# Altium footprint library libreriaPcb.PcbLib: 683 footprints (part 26 of 44)
Each footprint in its own frame and in the unit in brackets; x right, y up, seen from the top. Pads: shape width x height; smd on the part's side, far side on the other; paste and mask are expansions set on the pad; w line width, h text height; cw(c..) or ccw(c..) is an arc to the next point about the centre after c.
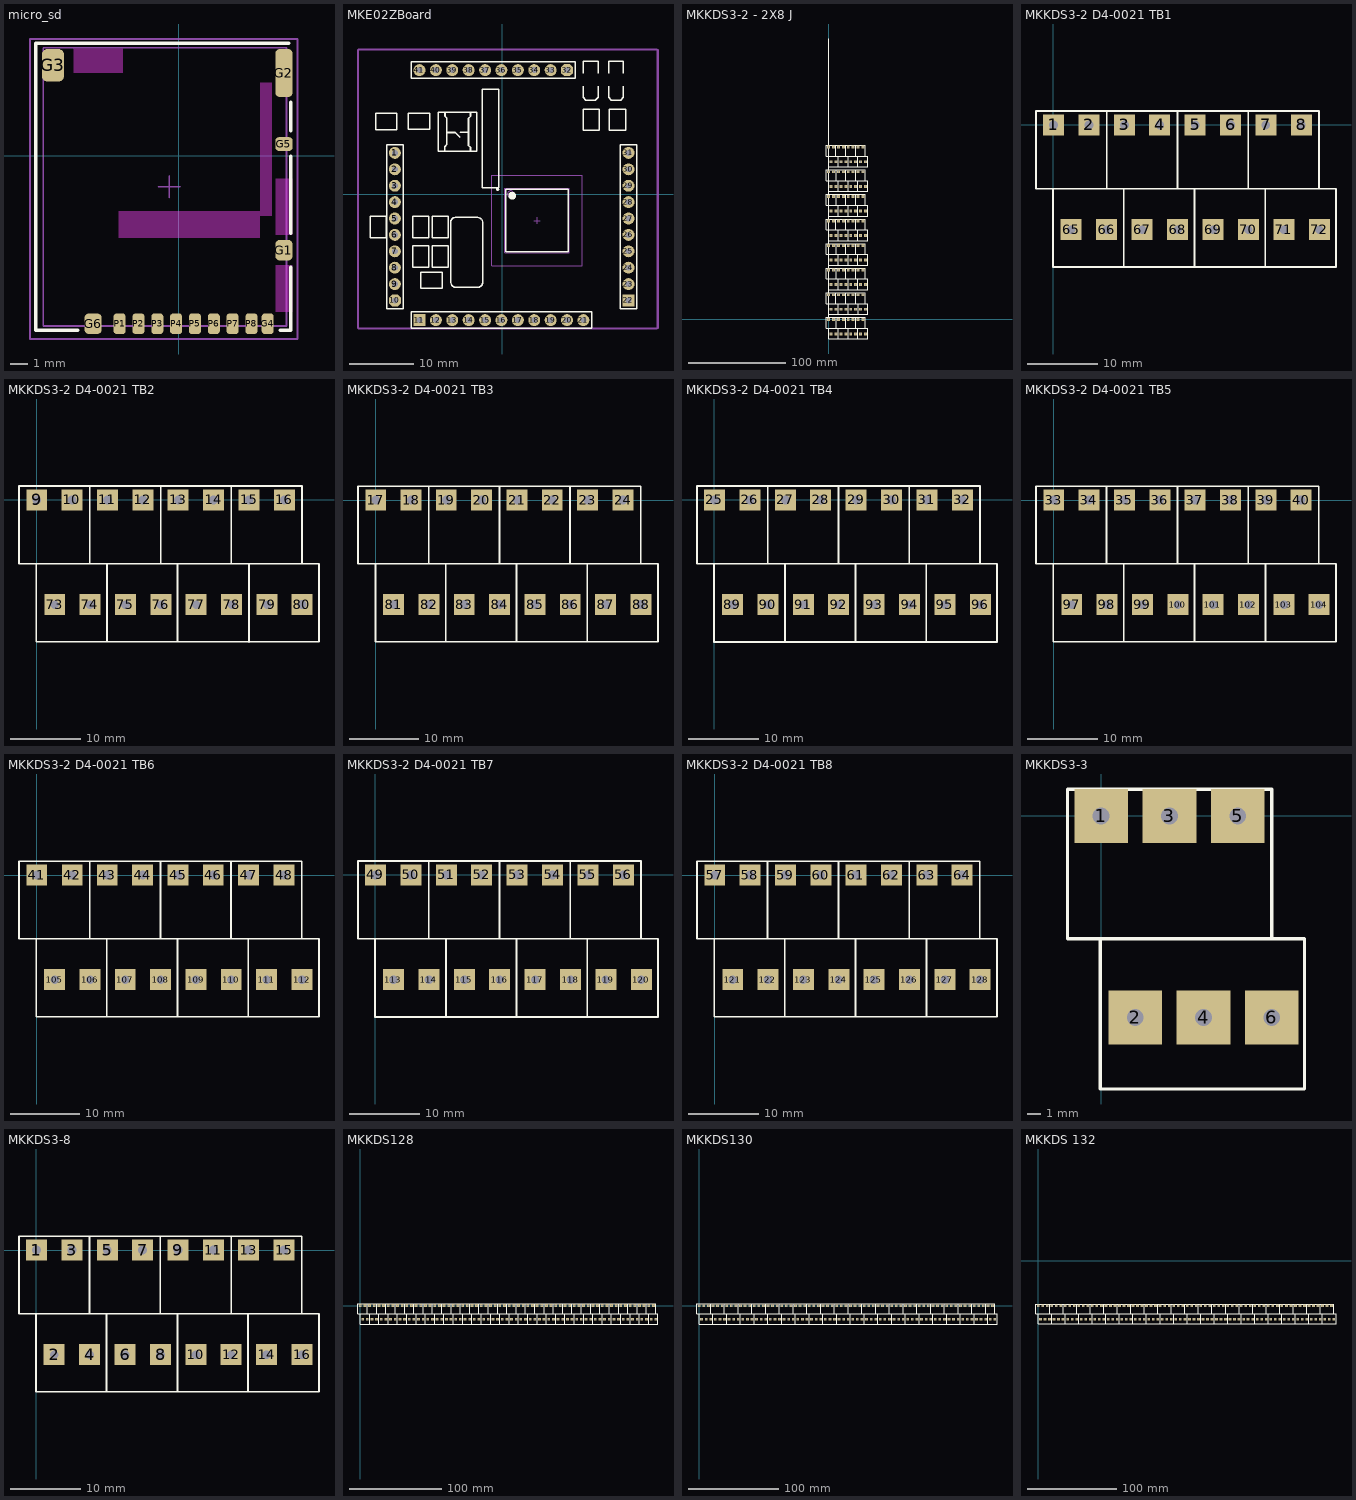
[diagram p25: the footprints below, top view; thin cyan lines are the x and y axes]

## micro_sd [mm]
pads (14):
  rrect50% 1x1.2 smd: G1(6.145,-5.518) G6(-5.005,-9.818)
  rrect50% 1x2.8 smd: G2(6.145,4.832)
  rrect50% 1.3x1.9 smd: G3(-7.355,5.282)
  rrect50% 0.7x1.2 smd: G4(5.195,-9.818) P1(-3.455,-9.818) P2(-2.355,-9.818) P3(-1.255,-9.818) P4(-0.155,-9.818) P5(0.945,-9.818) P6(2.045,-9.818) P7(3.145,-9.818) P8(4.245,-9.818)
  rrect50% 1x0.8 smd: G5(6.145,0.682)
Top Layer keep-out:
  region: -3.26,6.258 -6.16,6.258 -6.16,4.833 -3.26,4.833
  region: 5.44,4.283 4.74,4.283 4.74,-3.517 5.44,-3.517
  region: 6.64,-1.317 5.64,-1.317 5.64,-4.637 6.64,-4.637
  region: 6.64,-6.387 5.64,-6.387 5.64,-9.137 6.64,-9.137
  region: 4.74,-3.217 -3.51,-3.217 -3.51,-4.817 4.74,-4.817
Top Overlay:
  lines w0.2: -8.36,-10.199 -8.36,6.565 ; -8.307,-10.199 -5.894,-10.199 ; -8.307,6.565 -8.18,6.565 6.425,6.565 ; 5.917,-10.199 6.552,-10.199 6.552,-6.516 ; 6.552,-4.517 6.552,-0.039 ; 6.552,1.458 6.552,3.136
Mechanical 11:
  lines w0.1: -7.926,-9.945 -7.926,6.311 -7.799,6.311 6.298,6.311 6.298,-9.945 -7.926,-9.945
  text "1" at -3.354,-9.31 h1
Mechanical 15:
  lines w0.1: -1.195,-1.817 0.075,-1.817 ; -0.56,-2.452 -0.56,-1.182 ; -8.688,-10.707 6.933,-10.707 6.933,6.819 -8.688,6.819 -8.688,-10.707
3D body "User Library-Micro_SD.step": height 1.6, standoff 0.63, extent -5.66,-7.317 5.34,7.683
3D body "DM3AT-SF-PEJM5.stp": height 1.68, standoff 0, extent -7.612,-10.072 6.238,6.078

## MKE02ZBoard [mm]
pads (41):
  round 1.85 hole 0.9 paste+0: 1(-16.601,6.409) 2(-16.601,3.869) 3(-16.601,1.329) 4(-16.601,-1.211) 5(-16.601,-3.751) 6(-16.601,-6.291) 7(-16.601,-8.831) 8(-16.601,-11.371) 9(-16.601,-13.911) 33(7.529,19.236) 34(4.989,19.236) 35(2.449,19.236) 36(-0.091,19.236) 37(-2.631,19.236) 38(-5.171,19.236) 39(-7.711,19.236) 40(-10.251,19.236) 41(-12.791,19.236)
  oct 1.85x1.85 hole 0.9: 10(-16.601,-16.451)
  rect 1.85x1.85 hole 0.9: 11(-12.791,-19.499) 22(19.594,-16.451)
  round 1.85 hole 0.9: 12(-10.251,-19.499) 13(-7.711,-19.499) 14(-5.171,-19.499) 15(-2.631,-19.499) 16(-0.091,-19.499) 17(2.449,-19.499) 18(4.989,-19.499) 19(7.529,-19.499) 20(10.069,-19.499) 21(12.609,-19.499) 23(19.594,-13.911) 24(19.594,-11.371) 25(19.594,-8.831) 26(19.594,-6.291) 27(19.594,-3.751) 28(19.594,-1.211) 29(19.594,1.329) 30(19.594,3.869) 31(19.594,6.409)
  oct 1.85x1.85 hole 0.9 paste+0: 32(10.069,19.236)
Top Layer:
  lines w0.35: -17.044,-6.735 -16.601,-6.291 -15.839,-6.291 ; -16.601,-1.211 -16.537,-1.275 ; -5.171,-19.499 -5.171,-19.245 ; 2.449,-19.499 2.449,-18.864 ; 4.989,-19.499 4.989,-18.991 ; 18.959,-16.451 19.594,-16.451 ; 18.959,-8.831 19.594,-8.831 ; 19.34,1.329 19.594,1.329
  lines w0.5: -16.855,-11.371 cw(c-16.728,-11.371) -16.728,-11.244 ; -16.855,-8.831 cw(c-16.728,-8.831) -16.728,-8.704
  lines w1: 19.531,6.345 19.594,6.409
Top Overlay:
  circle w0.25: c-0.666,0.756 r0.125
  circle w0.6: c1.584,-0.219 r0.3
  lines w0.2: -7.94,-4.37 cw(c-7.158,-4.338) -7.158,-3.555 -3.788,-3.555 -3.756,-3.587 cw(c-3.773,-4.37) -2.99,-4.37 -2.99,-13.62 cw(c-3.773,-13.62) -3.805,-14.402 ; -7.94,-4.07 -7.94,-13.62 ccw(c-7.158,-13.62) -7.158,-14.402 -3.84,-14.402 ; -3.918,6.666 -9.893,6.666 -9.893,12.716 -3.893,12.716 -3.893,6.691 ; 12.575,16.749 12.575,15.049 12.975,14.549 14.475,14.549 14.875,15.049 14.875,16.749 ; 12.575,18.749 12.575,20.649 14.875,20.649 14.875,18.749 ; 16.512,16.749 16.512,15.049 16.912,14.549 18.412,14.549 18.812,15.049 18.812,16.749 ; 16.512,18.749 16.512,20.649 18.812,20.649 18.812,18.749 ; -20.454,-6.735 -20.454,-3.435 -19.204,-3.435 -17.954,-3.435 -17.954,-6.735 -20.454,-6.735 ; -19.594,10.038 -19.594,11.288 -19.594,12.538 -16.294,12.538 -16.294,10.038 -19.594,10.038 ; -17.871,-17.721 -17.871,7.679 -15.331,7.679 -15.331,-15.816 -15.331,-17.721 -17.871,-17.721 ; -14.504,10.048 -14.504,12.548 -11.204,12.548 -11.204,11.298 -11.204,10.048 -14.504,10.048 ; -14.061,-20.769 13.879,-20.769 13.879,-18.229 -12.156,-18.229 -14.061,-18.229 -14.061,-20.769 ; -14.061,17.966 9.434,17.966 11.339,17.966 11.339,20.506 -14.061,20.506 -14.061,17.966 ; -13.85,-11.307 -13.85,-8.007 -12.6,-8.007 -11.35,-8.007 -11.35,-11.307 -13.85,-11.307 ; -13.85,-6.735 -13.85,-3.435 -11.35,-3.435 -11.35,-6.735 -12.6,-6.735 -13.85,-6.735 ; -12.589,-14.58 -12.589,-12.08 -9.289,-12.08 -9.289,-13.33 -9.289,-14.58 -12.589,-14.58 ; -10.802,-11.307 -10.802,-8.007 -9.552,-8.007 -8.302,-8.007 -8.302,-11.307 -10.802,-11.307 ; -10.802,-6.735 -10.802,-3.435 -8.302,-3.435 -8.302,-6.735 -9.552,-6.735 -10.802,-6.735 ; -3.075,1.011 -0.535,1.011 -0.535,16.251 -3.075,16.251 -3.075,1.011 ; 0.584,-8.919 0.584,0.781 10.284,0.781 10.284,-8.919 0.584,-8.919 ; 12.576,9.892 12.576,13.192 15.076,13.192 15.076,9.892 13.826,9.892 12.576,9.892 ; 16.64,9.892 16.64,13.192 19.14,13.192 19.14,9.892 17.89,9.892 16.64,9.892 ; 18.324,-17.721 20.864,-17.721 20.864,7.679 18.324,7.679 18.324,-15.816 18.324,-17.721
  lines w0.254: -8.893,6.666 -8.893,7.366 -8.543,7.716 -8.543,11.816 -8.843,12.116 -8.843,12.716 ; -8.543,9.566 -7.243,9.566 -6.543,8.866 ; -6.443,9.616 -5.193,9.616 ; -4.893,6.666 -4.893,7.266 -5.193,7.566 -5.193,11.766 -4.893,12.066 -4.893,12.716
Mechanical 1:
  circle w0.1: c1.334,0.031 r0.5
  lines w0.1: 0.434,-9.069 0.434,0.931 10.434,0.931 10.434,-9.069 0.434,-9.069
  lines w0.254: -16.601,-20.769 20.864,-20.769 ; -12.791,19.236 -12.537,19.236 -12.283,19.49 ; -22.316,-20.769 -22.316,22.411 24.166,22.411 24.166,-20.769 -22.316,-20.769 ; -22.252,-20.833 24.039,-20.833 24.039,22.474 -22.189,22.474 -22.252,22.411 -22.252,-20.833
Mechanical 15:
  lines w0.1: 4.934,-4.069 5.934,-4.069 ; 5.434,-4.569 5.434,-3.569 ; -1.566,-11.069 -1.566,2.931 12.434,2.931 12.434,-11.069 -1.566,-11.069
3D body: height 7.35, standoff 7.25, extent 1.284,-1.868 1.684,-1.468
3D body: height 7, standoff 6, extent 6.696,-9.466 6.996,-7.714
3D body: height 7, standoff 6, extent 6.211,-9.453 6.511,-7.701
3D body: height 7, standoff 6, extent 5.703,-9.466 6.003,-7.714
3D body: height 7, standoff 6, extent 5.195,-9.466 5.495,-7.714
3D body: height 7, standoff 6, extent 4.687,-9.466 4.987,-7.714
3D body: height 7, standoff 6, extent 4.207,-9.466 4.507,-7.714
3D body: height 7, standoff 6, extent 3.696,-9.466 3.996,-7.714
3D body: height 7, standoff 6, extent 3.188,-9.466 3.488,-7.714
3D body: height 7, standoff 6, extent 2.706,-9.466 3.006,-7.714
3D body: height 7, standoff 6, extent 2.198,-9.466 2.498,-7.714
3D body: height 7, standoff 6, extent 1.687,-9.466 1.987,-7.714
3D body: height 7, standoff 6, extent 1.205,-9.466 1.505,-7.714
3D body: height 6.25, standoff 6, extent 6.693,-0.576 6.993,1.176
3D body: height 6.25, standoff 6, extent 6.185,-0.576 6.485,1.176
3D body: height 6.25, standoff 6, extent 5.703,-0.576 6.003,1.176
3D body: height 6.25, standoff 6, extent 5.195,-0.576 5.495,1.176
3D body: height 6.25, standoff 6, extent 4.712,-0.576 5.012,1.176
3D body: height 6.25, standoff 6, extent 4.204,-0.576 4.504,1.176
3D body: height 6.25, standoff 6, extent 3.694,-0.576 3.994,1.176
3D body: height 6.25, standoff 6, extent 3.214,-0.576 3.514,1.176
3D body: height 6.25, standoff 6, extent 2.706,-0.576 3.006,1.176
3D body: height 6.25, standoff 6, extent 2.198,-0.576 2.498,1.176
3D body: height 6.25, standoff 6, extent 1.715,-0.576 2.015,1.176
3D body: height 6.25, standoff 6, extent 1.184,-0.576 1.484,1.176
3D body: height 7, standoff 6, extent 7.631,-7.025 9.383,-6.725
3D body: height 7, standoff 6, extent 7.631,-6.545 9.383,-6.245
3D body: height 7, standoff 6, extent 7.631,-6.035 9.383,-5.735
3D body: height 7, standoff 6, extent 7.644,-5.527 9.396,-5.227
3D body: height 7, standoff 6, extent 7.644,-5.044 9.396,-4.744
3D body: height 7, standoff 6, extent 7.644,-4.539 9.396,-4.239
3D body: height 7, standoff 6, extent 7.644,-4.031 9.396,-3.731
3D body: height 7, standoff 6, extent 7.644,-3.52 9.396,-3.22
3D body: height 7, standoff 6, extent 7.644,-3.038 9.396,-2.738
3D body: height 7, standoff 6, extent 7.644,-2.53 9.396,-2.23
3D body: height 7, standoff 6, extent 7.631,-2.024 9.383,-1.724
3D body: height 6.25, standoff 6, extent 7.644,-1.541 9.396,-1.241
3D body: height 7, standoff 6, extent -1.183,-1.541 0.57,-1.241
3D body: height 7, standoff 6, extent -1.183,-2.024 0.57,-1.724
3D body: height 7, standoff 6, extent -1.183,-2.532 0.57,-2.232
3D body: height 7, standoff 6, extent -1.183,-3.038 0.57,-2.738
3D body: height 7, standoff 6, extent -1.183,-3.523 0.57,-3.223
3D body: height 7, standoff 6, extent -1.183,-4.028 0.57,-3.728
3D body: height 7, standoff 6, extent -1.183,-4.536 0.57,-4.236
3D body: height 7, standoff 6, extent -1.183,-5.044 0.57,-4.744
3D body: height 7, standoff 6, extent -1.183,-5.527 0.57,-5.227
3D body: height 7, standoff 6, extent -1.183,-6.035 0.57,-5.735
3D body: height 7, standoff 6, extent -1.183,-6.52 0.57,-6.22
3D body: height 7, standoff 6, extent -1.183,-7.023 0.57,-6.723
3D body: height 7, standoff 6, extent -16.123,9.112 -10.113,15.122
3D body: height 8.9, standoff 8.1, extent -14.723,10.632 -11.723,13.632
3D body: height 8.1, standoff 7, extent -16.126,9.101 -10.116,15.111
3D body: height 8.2, standoff 8.1, extent -15.903,13.932 -14.903,14.932
3D body: height 8.2, standoff 8.1, extent -11.353,13.902 -10.353,14.902
3D body: height 8.2, standoff 8.1, extent -11.303,9.372 -10.303,10.372
3D body: height 8.2, standoff 8.1, extent -15.853,9.402 -14.853,10.402
3D body: height 7, standoff 6, extent -2.67,10.558 -0.07,12.158
3D body: height 7, standoff 6, extent -0.07,10.558 0.23,12.158
3D body: height 7, standoff 6, extent -2.97,10.558 -2.67,12.158
3D body: height -2, standoff -6, extent -9.801,-11.264 -4.65,-0.217
3D body: height 7, standoff 6, extent -16.385,18.317 -14.785,20.917
3D body: height 7, standoff 6, extent -16.385,20.917 -14.785,21.217
3D body: height 7, standoff 6, extent -16.385,18.017 -14.785,18.317
3D body: height 7, standoff 6, extent -2.67,13.098 -0.07,14.698
3D body: height 7, standoff 6, extent -0.07,13.098 0.23,14.698
3D body: height 7, standoff 6, extent -2.97,13.098 -2.67,14.698
3D body: height 7, standoff 6, extent -14.857,-6.33 -13.257,-3.73
3D body: height 7, standoff 6, extent -14.857,-3.73 -13.257,-3.43
3D body: height 7, standoff 6, extent -14.857,-6.63 -13.257,-6.33
3D body: height 7, standoff 6, extent -19.683,-6.33 -18.083,-3.73
3D body: height 7, standoff 6, extent -19.683,-3.73 -18.083,-3.43
3D body: height 7, standoff 6, extent -19.683,-6.63 -18.083,-6.33
3D body: height 7, standoff 6, extent -11.687,-5.063 -9.087,-3.463
3D body: height 7, standoff 6, extent -9.087,-5.063 -8.787,-3.463
3D body: height 7, standoff 6, extent -11.987,-5.063 -11.687,-3.463
3D body: height 7, standoff 6, extent -11.669,-7.849 -9.069,-6.249
3D body: height 7, standoff 6, extent -11.969,-7.849 -11.669,-6.249
3D body: height 7, standoff 6, extent -9.069,-7.849 -8.769,-6.249
3D body: height 6, standoff 5, extent -22.163,-20.718 23.912,22.309
3D body: height -0.2, standoff -6, extent 18.215,-17.827 20.864,7.679
3D body: height -0.2, standoff -6, extent -17.849,-17.801 -15.2,7.704
3D body: height -0.2, standoff -6, extent -13.961,18.038 11.544,20.687
3D body: height -0.2, standoff -6, extent -14.224,-20.951 13.93,-18.302
3D body: height 1, standoff 0, extent -13.42,-11.237 -11.82,-10.937
3D body: height 1, standoff 0, extent -13.42,-8.337 -11.82,-8.037
3D body: height 1, standoff 0, extent -13.42,-10.937 -11.82,-8.337
3D body: height 1, standoff 0, extent -10.372,-11.237 -8.772,-10.937
3D body: height 1, standoff 0, extent -10.372,-8.337 -8.772,-8.037
3D body: height 1, standoff 0, extent -10.372,-10.937 -8.772,-8.337
3D body: height 1, standoff 0, extent -13.38,-3.805 -11.78,-3.505
3D body: height 1, standoff 0, extent -13.38,-6.705 -11.78,-6.405
3D body: height 1, standoff 0, extent -13.38,-6.405 -11.78,-3.805
3D body: height 1, standoff 0, extent -20.024,-6.665 -18.424,-6.365
3D body: height 1, standoff 0, extent -20.024,-3.765 -18.424,-3.465
3D body: height 1, standoff 0, extent -20.024,-6.365 -18.424,-3.765
3D body: height 1, standoff 0, extent -10.332,-3.805 -8.732,-3.505
3D body: height 1, standoff 0, extent -10.332,-6.705 -8.732,-6.405
3D body: height 1, standoff 0, extent -10.332,-6.405 -8.732,-3.805
3D body: height 1, standoff 0, extent -14.434,10.518 -14.134,12.118
3D body: height 1, standoff 0, extent -11.534,10.518 -11.234,12.118
3D body: height 1, standoff 0, extent -14.134,10.518 -11.534,12.118
3D body: height 6, standoff 5, extent 12.901,16.124 14.527,19.426
3D body: height 6, standoff 5, extent 16.838,16.124 18.464,19.426
3D body: height 1, standoff 0, extent -12.249,-14.14 -9.649,-12.54
3D body: height 1, standoff 0, extent -9.649,-14.14 -9.349,-12.54
3D body: height 1, standoff 0, extent -12.549,-14.14 -12.249,-12.54
3D body: height 1, standoff 0, extent -19.234,10.498 -16.634,12.098
3D body: height 1, standoff 0, extent -19.534,10.498 -19.234,12.098
3D body: height 1, standoff 0, extent -16.634,10.498 -16.334,12.098
3D body: height 6, standoff 5, extent 13.016,10.252 14.616,12.852
3D body: height 6, standoff 5, extent 13.016,9.952 14.616,10.252
3D body: height 6, standoff 5, extent 13.016,12.852 14.616,13.152
3D body: height 6, standoff 5, extent 17.08,10.252 18.68,12.852
3D body: height 6, standoff 5, extent 17.08,9.952 18.68,10.252
3D body: height 6, standoff 5, extent 17.08,12.852 18.68,13.152
3D body: height 2.2, standoff 2.1, extent -5.162,6.97 -4.164,7.966
3D body: height 2.2, standoff 2.1, extent -5.132,11.52 -4.134,12.516
3D body: height 2.2, standoff 2.1, extent -9.662,11.47 -8.664,12.466
3D body: height 2.2, standoff 2.1, extent -9.692,6.92 -8.694,7.916
3D body: height 2.1, standoff 2, extent -9.883,6.696 -3.873,12.706
3D body: height 2.35, standoff 2.1, extent -8.39,8.108 -5.396,11.096
3D body: height 2, standoff 0, extent -9.883,6.696 -3.873,12.706
3D body: height 10, standoff 0, extent -8.041,-14.502 -2.89,-3.455
3D body: height 7.25, standoff 6, extent 0.6,-7.632 7.6,-0.632
3D body: height 2.45, standoff 0, extent 0.434,-9.069 10.434,0.931

## MKKDS3-2 - 2X8 J [mm]
pads (128):
  rect 3x3 hole 1.25: 1(0,0) 2(5.08,0) 3(10.16,0) 4(15.2,0) 5(20.28,0) 6(25.36,0) 7(30.4,0) 8(35.48,0) 9(0,25.4) 10(5.04,25.4) 11(10.12,25.4) 12(15.2,25.4) 13(20.24,25.4) 14(25.32,25.4) 15(30.4,25.4) 16(35.44,25.4) 17(0,50.8) 18(5.08,50.8) 19(10.12,50.8) 20(15.2,50.8) 21(20.28,50.8) 22(25.32,50.8) 23(30.4,50.8) 24(35.48,50.8) 25(0,76.2) 26(5.08,76.2) 27(10.16,76.2) 28(15.2,76.2) 29(20.28,76.2) 30(25.36,76.2) 31(30.4,76.2) 32(35.48,76.2) 33(0,101.6) 34(5.04,101.6) 35(10.12,101.6) 36(15.2,101.6) 37(20.24,101.6) 38(25.32,101.6) 39(30.4,101.6) 40(35.44,101.6) 41(0,127) 42(5.092,127) 43(10.12,127) 44(15.2,127) 45(20.28,127) 46(25.32,127) 47(30.4,127) 48(35.48,127) 49(0,152.4) 50(5.08,152.4) 51(10.16,152.4) 52(15.2,152.4) 53(20.28,152.4) 54(25.36,152.4) 55(30.4,152.4) 56(35.48,152.4) 57(0,177.8) 58(5.04,177.8) 59(10.12,177.8) 60(15.2,177.8) 61(20.24,177.8) 62(25.32,177.8) 63(30.4,177.8) 64(35.44,177.8) 65(2.54,-15) 66(7.62,-15) 67(12.7,-15) 68(17.78,-15) 69(22.86,-15) 70(27.9,-15) 71(32.98,-15) 72(38.06,-15) 73(2.58,10.4) 74(7.62,10.4) 75(12.7,10.4) 76(17.78,10.4) 77(22.82,10.4) 78(27.9,10.4) 79(32.98,10.4) 80(37.966,10.414) 81(2.58,35.8) 82(7.66,35.8) 83(12.7,35.8) 84(17.78,35.8) 85(22.86,35.8) 86(27.9,35.8) 87(32.98,35.8) 88(38.06,35.8) 89(2.58,61.2) 90(7.66,61.2) 91(12.74,61.2) 92(17.78,61.2) 93(22.86,61.2) 94(27.94,61.2) 95(32.98,61.2) 96(38.06,61.2) 97(2.58,86.6) 98(7.62,86.6) 99(12.7,86.6) 100(17.78,86.6) 101(22.82,86.6) 102(27.9,86.6) 103(32.98,86.6) 104(38.02,86.6) 105(2.58,112) 106(7.66,112) 107(12.7,112) 108(17.78,112) 109(22.86,112) 110(27.9,112) 111(32.98,112) 112(38.06,112) 113(2.58,137.4) 114(7.66,137.4) 115(12.74,137.4) 116(17.78,137.4) 117(22.86,137.4) 118(27.94,137.4) 119(32.98,137.4) 120(38.06,137.4) 121(2.58,162.8) 122(7.62,162.8) 123(12.7,162.8) 124(17.78,162.8) 125(22.82,162.8) 126(27.9,162.8) 127(32.98,162.8) 128(38.02,162.8)
Top Overlay:
  drawing of 163 lines, arcs and shapes, not listed

## MKKDS3-2 D4-0021 TB1 [mm]
pads (16):
  rect 3x3 hole 1.25: 1(0,0) 2(5.08,0) 3(10.16,0) 4(15.2,0) 5(20.28,0) 6(25.36,0) 7(30.4,0) 8(35.48,0) 65(2.54,-15) 66(7.62,-15) 67(12.7,-15) 68(17.78,-15) 69(22.86,-15) 70(27.9,-15) 71(32.98,-15) 72(38.06,-15)
Top Overlay:
  lines w0.254: -0.073,-9.144 -0.073,-20.32 15.127,-20.32 30.327,-20.32 ; 7.62,-9.144 7.62,1.98 ; 10.047,-20.32 10.047,-9.144 ; 12.7,-9.144 30.327,-9.144 30.327,-20.32 ; 15.127,-9.144 -2.5,-9.144 -2.5,1.98 12.7,1.98 27.9,1.98 ; 17.74,-9.144 17.74,1.98 ; 20.207,-20.32 20.207,-9.144 ; 38.02,-9.144 38.02,1.98 27.9,1.98 ; 27.9,1.98 27.9,-9.144 40.447,-9.144 40.447,-20.32 30.327,-20.32

## MKKDS3-2 D4-0021 TB2 [mm]
pads (16):
  rect 3x3 hole 1.25: 9(0,0) 10(5.04,0) 11(10.12,0) 12(15.2,0) 13(20.24,0) 14(25.32,0) 15(30.4,0) 16(35.44,0) 73(2.58,-15) 74(7.62,-15) 75(12.7,-15) 76(17.78,-15) 77(22.82,-15) 78(27.9,-15) 79(32.98,-15) 80(37.966,-14.986)
Top Overlay:
  lines w0.254: -0.073,-9.144 -0.073,-20.32 20.167,-20.32 ; 7.58,-9.144 7.58,1.98 ; 10.047,-20.32 10.047,-9.144 ; 27.86,1.98 27.86,-9.144 40.407,-9.144 40.407,-20.32 35.367,-20.32 20.167,-20.32 ; 30.381,-20.334 30.381,-9.158 ; 32.94,-9.144 37.98,-9.144 37.98,1.98 32.94,1.98 17.74,1.98 ; 35.367,-9.144 17.74,-9.144 17.74,1.98 ; 17.74,1.98 -2.54,1.98 -2.54,-9.144 20.167,-9.144 20.167,-20.32

## MKKDS3-2 D4-0021 TB3 [mm]
pads (16):
  rect 3x3 hole 1.25: 17(0,0) 18(5.08,0) 19(10.12,0) 20(15.2,0) 21(20.28,0) 22(25.32,0) 23(30.4,0) 24(35.48,0) 81(2.58,-15) 82(7.66,-15) 83(12.7,-15) 84(17.78,-15) 85(22.86,-15) 86(27.9,-15) 87(32.98,-15) 88(38.06,-15)
Top Overlay:
  lines w0.254: -0.019,-9.158 -0.019,-20.334 10.047,-20.32 ; 10.047,-9.144 10.047,-20.32 ; 17.74,-9.144 17.74,1.98 -2.54,1.98 -2.54,-9.144 20.167,-9.144 ; 20.207,-20.32 20.207,-9.144 ; 22.82,-9.144 40.447,-9.144 ; 25.247,-9.144 7.62,-9.144 7.62,1.98 22.82,1.98 38.02,1.98 38.02,-9.144 ; 27.86,-9.144 27.86,1.98 ; 30.327,-20.32 30.327,-9.144 ; 40.447,-20.32 25.247,-20.32 10.047,-20.32 ; 40.487,-20.32 40.487,-9.144

## MKKDS3-2 D4-0021 TB4 [mm]
pads (16):
  rect 3x3 hole 1.25: 25(0,0) 26(5.08,0) 27(10.16,0) 28(15.2,0) 29(20.28,0) 30(25.36,0) 31(30.4,0) 32(35.48,0) 89(2.58,-15) 90(7.66,-15) 91(12.74,-15) 92(17.78,-15) 93(22.86,-15) 94(27.94,-15) 95(32.98,-15) 96(38.06,-15)
Top Overlay:
  lines w0.254: -0.073,-9.144 -0.073,-20.32 15.127,-20.32 30.327,-20.32 ; 7.62,-9.144 7.62,1.98 ; 10.087,-20.32 10.087,-9.144 ; 12.7,-9.144 30.327,-9.144 ; 15.127,-9.144 -2.5,-9.144 -2.5,1.98 12.7,1.98 27.9,1.98 ; 17.74,-9.144 17.74,1.98 ; 20.207,-20.32 20.207,-9.144 ; 38.02,-9.144 38.02,1.98 27.9,1.98 ; 27.9,-9.144 27.9,1.98 ; 27.9,-9.144 40.447,-9.144 40.447,-20.32 30.327,-20.32 ; 27.9,-9.144 27.9,1.98 ; 30.327,-20.32 30.327,-9.144 ; 30.327,-20.32 30.327,-9.144

## MKKDS3-2 D4-0021 TB5 [mm]
pads (16):
  rect 3x3 hole 1.25: 33(0,0) 34(5.04,0) 35(10.12,0) 36(15.2,0) 37(20.24,0) 38(25.32,0) 39(30.4,0) 40(35.44,0) 97(2.58,-15) 98(7.62,-15) 99(12.7,-15) 100(17.78,-15) 101(22.82,-15) 102(27.9,-15) 103(32.98,-15) 104(38.02,-15)
Top Overlay:
  lines w0.254: -0.073,-9.144 -0.073,-20.32 20.167,-20.32 ; 7.58,-9.144 7.58,1.98 ; 10.047,-20.32 10.047,-9.144 ; 27.86,-9.144 27.86,1.98 ; 30.327,-20.32 30.327,-9.144 ; 37.98,-9.144 37.98,1.98 17.74,1.98 ; 17.74,1.98 17.74,-9.144 40.447,-9.144 40.447,-20.32 20.167,-20.32 ; 17.74,1.98 -2.54,1.98 -2.54,-9.144 20.167,-9.144 20.167,-20.32

## MKKDS3-2 D4-0021 TB6 [mm]
pads (16):
  rect 3x3 hole 1.25: 41(0,0) 42(5.092,0) 43(10.12,0) 44(15.2,0) 45(20.28,0) 46(25.32,0) 47(30.4,0) 48(35.48,0) 105(2.58,-15) 106(7.66,-15) 107(12.7,-15) 108(17.78,-15) 109(22.86,-15) 110(27.9,-15) 111(32.98,-15) 112(38.06,-15)
Top Overlay:
  lines w0.254: -0.073,-9.144 -0.073,-20.32 20.167,-20.32 ; 17.74,-9.144 17.74,1.98 -2.54,1.98 -2.54,-9.144 20.167,-9.144 ; 20.207,-20.32 20.207,-9.144 ; 22.82,-9.144 40.447,-9.144 ; 25.247,-9.144 7.62,-9.144 ; 27.86,-9.144 27.86,1.98 ; 30.327,-20.32 30.327,-9.144 ; 38.02,-9.144 38.02,1.98 22.82,1.98 7.62,1.98 ; 40.447,-20.32 25.247,-20.32 10.047,-20.32 ; 40.487,-20.32 40.487,-9.144 ; 7.62,-9.144 7.62,1.98 ; 7.62,-9.144 7.62,1.98 ; 10.047,-20.32 10.047,-9.144 10.047,-20.32

## MKKDS3-2 D4-0021 TB7 [mm]
pads (16):
  rect 3x3 hole 1.25: 49(0,0) 50(5.08,0) 51(10.16,0) 52(15.2,0) 53(20.28,0) 54(25.36,0) 55(30.4,0) 56(35.48,0) 113(2.58,-15) 114(7.66,-15) 115(12.74,-15) 116(17.78,-15) 117(22.86,-15) 118(27.94,-15) 119(32.98,-15) 120(38.06,-15)
Top Overlay:
  lines w0.254: -0.073,-9.144 -0.073,-20.32 15.127,-20.32 30.327,-20.32 ; 7.62,-9.144 7.62,1.98 ; 10.087,-20.32 10.087,-9.144 ; 12.7,-9.144 30.327,-9.144 ; 15.127,-9.144 -2.5,-9.144 -2.5,1.98 27.9,1.98 ; 17.74,-9.144 17.74,1.98 ; 20.207,-20.32 20.207,-9.144 ; 38.02,-9.144 38.02,1.98 27.9,1.98 ; 27.9,-9.144 27.9,1.98 ; 27.9,-9.144 40.447,-9.144 40.447,-20.32 30.327,-20.32 ; 27.9,-9.144 27.9,1.98 ; 30.327,-20.32 30.327,-9.144 ; 30.327,-20.32 30.327,-9.144

## MKKDS3-2 D4-0021 TB8 [mm]
pads (16):
  rect 3x3 hole 1.25: 57(0,0) 58(5.04,0) 59(10.12,0) 60(15.2,0) 61(20.24,0) 62(25.32,0) 63(30.4,0) 64(35.44,0) 121(2.58,-15) 122(7.62,-15) 123(12.7,-15) 124(17.78,-15) 125(22.82,-15) 126(27.9,-15) 127(32.98,-15) 128(38.02,-15)
Top Overlay:
  lines w0.254: -0.073,-9.144 -0.073,-20.32 20.167,-20.32 ; 7.58,-9.144 7.58,1.98 ; 10.047,-20.32 10.047,-9.144 ; 27.86,-9.144 27.86,1.98 ; 30.327,-20.32 30.327,-9.144 ; 32.94,-9.144 40.447,-9.144 40.447,-20.32 20.167,-20.32 ; 35.367,-9.144 17.74,-9.144 17.74,1.98 ; 37.98,-9.144 37.98,1.98 32.94,1.98 17.74,1.98 ; 17.74,1.98 -2.54,1.98 -2.54,-9.144 20.167,-9.144 20.167,-20.32

## MKKDS3-3 [mm] "Bornera doble de 3x3"
pads (6):
  rect 4x4 hole 1.25: 1(0,0) 2(2.54,-15) 3(5.08,0) 4(7.62,-15) 5(10.16,0) 6(12.7,-15)
Top Overlay:
  lines w0.254: -0.073,-9.144 -0.073,-20.32 15.127,-20.32 15.127,-9.144 -2.5,-9.144 -2.5,1.98 12.7,1.98 12.7,-9.144

## MKKDS3-8 [mm]
pads (16):
  rect 3x3 hole 1.25: 1(0,0) 2(2.54,-15) 3(5.08,0) 4(7.62,-15) 5(10.16,0) 6(12.7,-15) 7(15.2,0) 8(17.78,-15) 9(20.28,0) 10(22.86,-15) 11(25.36,0) 12(27.9,-15) 13(30.4,0) 14(32.98,-15) 15(35.48,0) 16(38.06,-15)
Top Overlay:
  lines w0.254: -0.073,-9.144 -0.073,-20.32 15.127,-20.32 30.327,-20.32 ; 7.62,-9.144 7.62,1.98 ; 10.047,-20.32 10.047,-9.144 ; 12.7,-9.144 30.327,-9.144 30.327,-20.32 ; 15.127,-9.144 -2.5,-9.144 -2.5,1.98 12.7,1.98 27.9,1.98 ; 17.74,-9.144 17.74,1.98 ; 20.207,-20.32 20.207,-9.144 ; 38.02,-9.144 38.02,1.98 27.9,1.98 ; 27.9,1.98 27.9,-9.144 40.487,-9.144 40.487,-20.32 30.327,-20.32

## MKKDS128 [mm]
pads (128):
  rect 3x3 hole 1.25: 1(0,0) 2(5.08,0) 3(10.16,0) 4(15.2,0) 5(20.28,0) 6(25.36,0) 7(30.4,0) 8(35.48,0) 9(40.56,0) 10(45.6,0) 11(50.68,0) 12(55.76,0) 13(60.8,0) 14(65.88,0) 15(70.96,0) 16(76,0) 17(81.08,0) 18(86.16,0) 19(91.2,0) 20(96.28,0) 21(101.36,0) 22(106.4,0) 23(111.48,0) 24(116.56,0) 25(121.6,0) 26(126.68,0) 27(131.76,0) 28(136.8,0) 29(141.88,0) 30(146.96,0) 31(152,0) 32(157.08,0) 33(162.16,0) 34(167.2,0) 35(172.28,0) 36(177.36,0) 37(182.4,0) 38(187.48,0) 39(192.56,0) 40(197.6,0) 41(202.68,0) 42(207.772,0) 43(212.8,0) 44(217.88,0) 45(222.96,0) 46(228,0) 47(233.08,0) 48(238.16,0) 49(243.2,0) 50(248.28,0) 51(253.36,0) 52(258.4,0) 53(263.48,0) 54(268.56,0) 55(273.6,0) 56(278.68,0) 57(283.76,0) 58(288.8,0) 59(293.88,0) 60(298.96,0) 61(304,0) 62(309.08,0) 63(314.16,0) 64(319.2,0) 65(2.54,-15) 66(7.62,-15) 67(12.7,-15) 68(17.78,-15) 69(22.86,-15) 70(27.9,-15) 71(32.98,-15) 72(38.06,-15) 73(43.14,-15) 74(48.18,-15) 75(53.26,-15) 76(58.34,-15) 77(63.38,-15) 78(68.46,-15) 79(73.54,-15) 80(78.526,-14.986) 81(83.66,-15) 82(88.74,-15) 83(93.78,-15) 84(98.86,-15) 85(103.94,-15) 86(108.98,-15) 87(114.06,-15) 88(119.14,-15) 89(124.18,-15) 90(129.26,-15) 91(134.34,-15) 92(139.38,-15) 93(144.46,-15) 94(149.54,-15) 95(154.58,-15) 96(159.66,-15) 97(164.74,-15) 98(169.78,-15) 99(174.86,-15) 100(179.94,-15) 101(184.98,-15) 102(190.06,-15) 103(195.14,-15) 104(200.18,-15) 105(205.26,-15) 106(210.34,-15) 107(215.38,-15) 108(220.46,-15) 109(225.54,-15) 110(230.58,-15) 111(235.66,-15) 112(240.74,-15) 113(245.78,-15) 114(250.86,-15) 115(255.94,-15) 116(260.98,-15) 117(266.06,-15) 118(271.14,-15) 119(276.18,-15) 120(281.26,-15) 121(286.34,-15) 122(291.38,-15) 123(296.46,-15) 124(301.54,-15) 125(306.58,-15) 126(311.66,-15) 127(316.74,-15) 128(321.78,-15)
Top Overlay:
  lines w0.254: -0.073,-9.144 -0.073,-20.32 15.127,-20.32 30.327,-20.32 ; 7.62,-9.144 7.62,1.98 ; 10.047,-20.32 10.047,-9.144 ; 12.7,-9.144 30.327,-9.144 30.327,-20.32 ; 15.127,-9.144 -2.5,-9.144 -2.5,1.98 12.7,1.98 27.9,1.98 ; 17.74,-9.144 17.74,1.98 ; 20.207,-20.32 20.207,-9.144 ; 38.02,-9.144 38.02,1.98 ; 40.487,-20.32 40.487,-9.144 ; 43.1,-9.144 60.727,-9.144 60.727,-20.32 ; 45.527,-9.144 27.9,-9.144 27.9,1.98 ; 48.14,-9.144 48.14,1.98 ; 50.607,-20.32 50.607,-9.144 ; 68.42,-9.144 68.42,1.98 ; 70.941,-20.334 70.941,-9.158 ; 73.5,-9.144 91.127,-9.144 91.127,-20.32 ; 75.927,-9.144 58.3,-9.144 58.3,1.98 ; 78.54,-9.144 78.54,1.98 ; 81.061,-20.334 81.061,-9.158 ; 98.82,-9.144 98.82,1.98 ; 101.287,-20.32 101.287,-9.144 ; 103.9,-9.144 121.527,-9.144 121.527,-20.32 ; 106.327,-9.144 88.7,-9.144 88.7,1.98 ; 108.94,-9.144 108.94,1.98 ; 111.407,-20.32 111.407,-9.144 ; 129.22,-9.144 129.22,1.98 ; 131.687,-20.32 131.687,-9.144 ; 134.3,-9.144 151.927,-9.144 ; 136.727,-9.144 119.1,-9.144 119.1,1.98 ; 139.34,-9.144 139.34,1.98 ; 141.807,-20.32 141.807,-9.144 ; 159.62,-9.144 159.62,1.98 ; 162.087,-20.32 162.087,-9.144 ; 164.7,-9.144 182.327,-9.144 182.327,-20.32 ; 167.127,-9.144 149.5,-9.144 ; 169.74,-9.144 169.74,1.98 ; 172.207,-20.32 172.207,-9.144 ; 190.02,-9.144 190.02,1.98 ; 192.487,-20.32 192.487,-9.144 ; 195.1,-9.144 212.727,-9.144 ; 197.527,-9.144 179.9,-9.144 179.9,1.98 ; 200.14,-9.144 200.14,1.98 ; 202.607,-20.32 202.607,-9.144 ; 220.42,-9.144 220.42,1.98 ; 222.887,-20.32 222.887,-9.144 ; 225.5,-9.144 243.127,-9.144 243.127,-20.32 ; 227.927,-9.144 210.3,-9.144 ; 230.54,-9.144 230.54,1.98 ; 233.007,-20.32 233.007,-9.144 ; 250.82,-9.144 250.82,1.98 ; 253.287,-20.32 253.287,-9.144 ; 255.9,-9.144 273.527,-9.144 ; 258.327,-9.144 240.7,-9.144 240.7,1.98 ; 260.94,-9.144 260.94,1.98 ; 263.407,-20.32 263.407,-9.144 ; 281.22,-9.144 281.22,1.98 ; 283.687,-20.32 283.687,-9.144 ; 286.3,-9.144 303.927,-9.144 303.927,-20.32 ; 288.727,-9.144 271.1,-9.144 ; 291.34,-9.144 291.34,1.98 ; 293.807,-20.32 293.807,-9.144 ; 311.62,-9.144 311.62,1.98 ; 314.087,-20.32 314.087,-9.144 ; 316.7,-9.144 324.207,-9.144 324.207,-20.32 303.927,-20.32 ; 319.127,-9.144 301.5,-9.144 301.5,1.98 ; 321.74,-9.144 321.74,1.98 316.7,1.98 301.5,1.98 ; 27.9,1.98 43.1,1.98 58.3,1.98 ; 30.327,-20.32 45.527,-20.32 60.727,-20.32 ; 58.3,1.98 73.5,1.98 88.7,1.98 ; 60.727,-20.32 75.927,-20.32 91.127,-20.32 ; 88.7,1.98 103.9,1.98 119.1,1.98 ; 91.127,-20.32 106.327,-20.32 121.527,-20.32 ; 119.1,1.98 134.3,1.98 149.5,1.98 ; 121.527,-20.32 136.727,-20.32 151.927,-20.32 ; 149.5,-9.144 149.5,1.98 ; 149.5,-9.144 149.5,1.98 ; 149.5,1.98 164.7,1.98 179.9,1.98 ; 151.927,-20.32 167.127,-20.32 182.327,-20.32 ; 151.927,-20.32 151.927,-9.144 ; 151.927,-20.32 151.927,-9.144 ; 179.9,1.98 195.1,1.98 210.3,1.98 ; 182.327,-20.32 197.527,-20.32 212.727,-20.32 ; 210.3,-9.144 210.3,1.98 ; 210.3,-9.144 210.3,1.98 ; 210.3,1.98 225.5,1.98 240.7,1.98 ; 212.727,-20.32 227.927,-20.32 243.127,-20.32 ; 212.727,-20.32 212.727,-9.144 ; 212.727,-20.32 212.727,-9.144 ; 240.7,1.98 255.9,1.98 271.1,1.98 ; 243.127,-20.32 258.327,-20.32 273.527,-20.32 ; 271.1,-9.144 271.1,1.98 ; 271.1,-9.144 271.1,1.98 ; 271.1,1.98 286.3,1.98 301.5,1.98 ; 273.527,-20.32 288.727,-20.32 303.927,-20.32 ; 273.527,-20.32 273.527,-9.144 ; 273.527,-20.32 273.527,-9.144

## MKKDS130 [mm]
pads (130):
  rect 3x3 hole 1.25: 1(0,0) 2(5.08,0) 3(10.16,0) 4(15.2,0) 5(20.28,0) 6(25.36,0) 7(30.4,0) 8(35.48,0) 9(40.56,0) 10(45.6,0) 11(50.68,0) 12(55.76,0) 13(60.8,0) 14(65.88,0) 15(70.96,0) 16(76,0) 17(81.08,0) 18(86.16,0) 19(91.2,0) 20(96.28,0) 21(101.36,0) 22(106.4,0) 23(111.48,0) 24(116.56,0) 25(121.6,0) 26(126.68,0) 27(131.76,0) 28(136.8,0) 29(141.88,0) 30(146.96,0) 31(152,0) 32(157.08,0) 33(162.16,0) 34(167.2,0) 35(172.28,0) 36(177.36,0) 37(182.4,0) 38(187.48,0) 39(192.56,0) 40(197.6,0) 41(202.68,0) 42(207.772,0) 43(212.8,0) 44(217.88,0) 45(222.96,0) 46(228,0) 47(233.08,0) 48(238.16,0) 49(243.2,0) 50(248.28,0) 51(253.36,0) 52(258.4,0) 53(263.48,0) 54(268.56,0) 55(273.6,0) 56(278.68,0) 57(283.76,0) 58(288.8,0) 59(293.88,0) 60(298.96,0) 61(304,0) 62(309.08,0) 63(314.16,0) 64(319.2,0) 65(324.28,0) 66(2.54,-15) 67(7.62,-15) 68(12.7,-15) 69(17.78,-15) 70(22.82,-15) 71(27.9,-15) 72(32.98,-15) 73(38.06,-15) 74(43.1,-15) 75(48.18,-15) 76(53.26,-15) 77(58.3,-15) 78(63.38,-15) 79(68.46,-15) 80(73.446,-14.986) 81(78.58,-15) 82(83.66,-15) 83(88.7,-15) 84(93.78,-15) 85(98.86,-15) 86(103.9,-15) 87(108.98,-15) 88(114.06,-15) 89(119.1,-15) 90(124.18,-15) 91(129.26,-15) 92(134.3,-15) 93(139.38,-15) 94(144.46,-15) 95(149.5,-15) 96(154.58,-15) 97(159.66,-15) 98(164.7,-15) 99(169.78,-15) 100(174.86,-15) 101(179.9,-15) 102(184.98,-15) 103(190.06,-15) 104(195.1,-15) 105(200.18,-15) 106(205.26,-15) 107(210.3,-15) 108(215.38,-15) 109(220.46,-15) 110(225.5,-15) 111(230.58,-15) 112(235.66,-15) 113(240.7,-15) 114(245.78,-15) 115(250.86,-15) 116(255.9,-15) 117(260.98,-15) 118(266.06,-15) 119(271.1,-15) 120(276.18,-15) 121(281.26,-15) 122(286.3,-15) 123(291.38,-15) 124(296.46,-15) 125(301.5,-15) 126(306.58,-15) 127(311.66,-15) 128(316.7,-15) 129(321.78,-15) 130(326.86,-15)
Top Overlay:
  lines w0.254: -0.073,-9.144 -0.073,-20.32 15.127,-20.32 ; 326.82,-9.144 326.82,1.98 316.7,1.98 ; 12.7,1.98 12.7,-9.144 30.327,-9.144 30.327,-20.32 ; 12.7,1.98 -2.5,1.98 -2.5,-9.144 15.127,-9.144 15.127,-20.32 ; 12.7,1.98 27.9,1.98 ; 15.127,-20.32 30.327,-20.32 ; 27.9,1.98 27.9,-9.144 45.527,-9.144 45.527,-20.32 ; 27.9,1.98 43.1,1.98 ; 30.327,-20.32 45.527,-20.32 ; 43.1,1.98 43.1,-9.144 60.727,-9.144 60.727,-20.32 ; 43.1,1.98 58.3,1.98 ; 45.527,-20.32 60.727,-20.32 ; 58.3,1.98 58.3,-9.144 75.927,-9.144 75.927,-20.32 ; 58.3,1.98 73.5,1.98 ; 60.727,-20.32 75.927,-20.32 ; 73.5,1.98 73.5,-9.144 91.127,-9.144 91.127,-20.32 ; 73.5,1.98 88.7,1.98 ; 75.927,-20.32 91.127,-20.32 ; 88.7,1.98 88.7,-9.144 106.327,-9.144 106.327,-20.32 ; 88.7,1.98 103.9,1.98 ; 91.127,-20.32 106.327,-20.32 ; 103.9,1.98 103.9,-9.144 121.527,-9.144 121.527,-20.32 ; 103.9,1.98 119.1,1.98 ; 106.327,-20.32 121.527,-20.32 ; 119.1,1.98 119.1,-9.144 136.727,-9.144 ; 119.1,1.98 134.3,1.98 ; 121.527,-20.32 136.727,-20.32 ; 134.3,-9.144 134.3,1.98 ; 134.3,-9.144 151.927,-9.144 ; 134.3,-9.144 134.3,1.98 ; 134.3,1.98 149.5,1.98 ; 136.727,-20.32 151.927,-20.32 ; 136.727,-20.32 136.727,-9.144 ; 136.727,-20.32 136.727,-9.144 ; 149.5,-9.144 149.5,1.98 ; 149.5,-9.144 167.127,-9.144 ; 149.5,-9.144 149.5,1.98 ; 149.5,1.98 164.7,1.98 ; 151.927,-20.32 167.127,-20.32 ; 151.927,-20.32 151.927,-9.144 ; 151.927,-20.32 151.927,-9.144 ; 164.7,-9.144 164.7,1.98 ; 164.7,-9.144 182.327,-9.144 182.327,-20.32 ; 164.7,-9.144 164.7,1.98 ; 164.7,1.98 179.9,1.98 ; 167.127,-20.32 182.327,-20.32 ; 167.127,-20.32 167.127,-9.144 ; 167.127,-20.32 167.127,-9.144 ; 179.9,1.98 179.9,-9.144 197.527,-9.144 ; 179.9,1.98 195.1,1.98 ; 182.327,-20.32 197.527,-20.32 ; 195.1,-9.144 195.1,1.98 ; 195.1,-9.144 212.727,-9.144 ; 195.1,-9.144 195.1,1.98 ; 195.1,1.98 210.3,1.98 ; 197.527,-20.32 212.727,-20.32 ; 197.527,-20.32 197.527,-9.144 ; 197.527,-20.32 197.527,-9.144 ; 210.3,-9.144 210.3,1.98 ; 210.3,-9.144 227.927,-9.144 ; 210.3,-9.144 210.3,1.98 ; 210.3,1.98 225.5,1.98 ; 212.727,-20.32 227.927,-20.32 ; 212.727,-20.32 212.727,-9.144 ; 212.727,-20.32 212.727,-9.144 ; 225.5,-9.144 225.5,1.98 ; 225.5,-9.144 243.127,-9.144 243.127,-20.32 ; 225.5,-9.144 225.5,1.98 ; 225.5,1.98 240.7,1.98 ; 227.927,-20.32 243.127,-20.32 ; 227.927,-20.32 227.927,-9.144 ; 227.927,-20.32 227.927,-9.144 ; 240.7,1.98 240.7,-9.144 258.327,-9.144 ; 240.7,1.98 255.9,1.98 ; 243.127,-20.32 258.327,-20.32 ; 255.9,-9.144 255.9,1.98 ; 255.9,-9.144 273.527,-9.144 ; 255.9,-9.144 255.9,1.98 ; 255.9,1.98 271.1,1.98 ; 258.327,-20.32 273.527,-20.32 ; 258.327,-20.32 258.327,-9.144 ; 258.327,-20.32 258.327,-9.144 ; 271.1,-9.144 271.1,1.98 ; 271.1,-9.144 288.727,-9.144 ; 271.1,-9.144 271.1,1.98 ; 271.1,1.98 286.3,1.98 ; 273.527,-20.32 288.727,-20.32 ; 273.527,-20.32 273.527,-9.144 ; 273.527,-20.32 273.527,-9.144 ; 286.3,-9.144 286.3,1.98 ; 286.3,-9.144 303.927,-9.144 303.927,-20.32 ; 286.3,-9.144 286.3,1.98 ; 286.3,1.98 301.5,1.98 ; 288.727,-20.32 303.927,-20.32 ; 288.727,-20.32 288.727,-9.144 ; 288.727,-20.32 288.727,-9.144 ; 301.5,1.98 301.5,-9.144 319.127,-9.144 ; 301.5,1.98 316.7,1.98 ; 303.927,-20.32 319.127,-20.32 ; 316.7,-9.144 316.7,1.98 ; 316.7,-9.144 329.247,-9.144 329.247,-20.32 319.127,-20.32 ; 316.7,-9.144 316.7,1.98 ; 319.127,-20.32 319.127,-9.144 ; 319.127,-20.32 319.127,-9.144

## MKKDS 132 [mm]
pads (132):
  rect 3x3 hole 1.25: 1(0,-50.8) 2(5.08,-50.8) 3(10.16,-50.8) 4(15.2,-50.8) 5(20.28,-50.8) 6(25.36,-50.8) 7(30.4,-50.8) 8(35.48,-50.8) 9(40.56,-50.8) 10(45.6,-50.8) 11(50.68,-50.8) 12(55.76,-50.8) 13(60.8,-50.8) 14(65.88,-50.8) 15(70.96,-50.8) 16(76,-50.8) 17(81.08,-50.8) 18(86.16,-50.8) 19(91.2,-50.8) 20(96.28,-50.8) 21(101.36,-50.8) 22(106.4,-50.8) 23(111.48,-50.8) 24(116.56,-50.8) 25(121.6,-50.8) 26(126.68,-50.8) 27(131.76,-50.8) 28(136.8,-50.8) 29(141.88,-50.8) 30(146.96,-50.8) 31(152,-50.8) 32(157.08,-50.8) 33(162.16,-50.8) 34(167.2,-50.8) 35(172.28,-50.8) 36(177.36,-50.8) 37(182.4,-50.8) 38(187.48,-50.8) 39(192.56,-50.8) 40(197.6,-50.8) 41(202.68,-50.8) 42(207.772,-50.8) 43(212.8,-50.8) 44(217.88,-50.8) 45(222.96,-50.8) 46(228,-50.8) 47(233.08,-50.8) 48(238.16,-50.8) 49(243.2,-50.8) 50(248.28,-50.8) 51(253.36,-50.8) 52(258.4,-50.8) 53(263.48,-50.8) 54(268.56,-50.8) 55(273.6,-50.8) 56(278.68,-50.8) 57(283.76,-50.8) 58(288.8,-50.8) 59(293.88,-50.8) 60(298.96,-50.8) 61(304,-50.8) 62(309.08,-50.8) 63(314.16,-50.8) 64(319.2,-50.8) 65(324.28,-50.8) 66(329.36,-50.8) 67(2.54,-65.8) 68(7.62,-65.8) 69(12.7,-65.8) 70(17.74,-65.8) 71(22.82,-65.8) 72(27.9,-65.8) 73(32.98,-65.8) 74(38.02,-65.8) 75(43.1,-65.8) 76(48.18,-65.8) 77(53.22,-65.8) 78(58.3,-65.8) 79(63.38,-65.8) 80(68.366,-65.786) 81(73.5,-65.8) 82(78.58,-65.8) 83(83.62,-65.8) 84(88.7,-65.8) 85(93.78,-65.8) 86(98.82,-65.8) 87(103.9,-65.8) 88(108.98,-65.8) 89(114.02,-65.8) 90(119.1,-65.8) 91(124.18,-65.8) 92(129.22,-65.8) 93(134.3,-65.8) 94(139.38,-65.8) 95(144.42,-65.8) 96(149.5,-65.8) 97(154.58,-65.8) 98(159.62,-65.8) 99(164.7,-65.8) 100(169.78,-65.8) 101(174.82,-65.8) 102(179.9,-65.8) 103(184.98,-65.8) 104(190.02,-65.8) 105(195.1,-65.8) 106(200.18,-65.8) 107(205.22,-65.8) 108(210.3,-65.8) 109(215.38,-65.8) 110(220.42,-65.8) 111(225.5,-65.8) 112(230.58,-65.8) 113(235.62,-65.8) 114(240.7,-65.8) 115(245.78,-65.8) 116(250.82,-65.8) 117(255.9,-65.8) 118(260.98,-65.8) 119(266.02,-65.8) 120(271.1,-65.8) 121(276.18,-65.8) 122(281.22,-65.8) 123(286.3,-65.8) 124(291.38,-65.8) 125(296.42,-65.8) 126(301.5,-65.8) 127(306.58,-65.8) 128(311.62,-65.8) 129(316.7,-65.8) 130(321.78,-65.8) 131(326.82,-65.8) 132(331.9,-65.8)
Top Overlay:
  lines w0.254: -0.073,-59.944 -0.073,-71.12 15.127,-71.12 ; 12.7,-48.82 12.7,-59.944 30.327,-59.944 30.327,-71.12 ; 12.7,-48.82 -2.5,-48.82 -2.5,-59.944 15.127,-59.944 15.127,-71.12 ; 12.7,-48.82 27.9,-48.82 ; 15.127,-71.12 30.327,-71.12 ; 27.9,-48.82 27.9,-59.944 45.527,-59.944 45.527,-71.12 ; 27.9,-48.82 43.1,-48.82 ; 30.327,-71.12 45.527,-71.12 ; 43.1,-48.82 43.1,-59.944 60.727,-59.944 60.727,-71.12 ; 43.1,-48.82 58.3,-48.82 ; 45.527,-71.12 60.727,-71.12 ; 58.3,-48.82 58.3,-59.944 75.927,-59.944 75.927,-71.12 ; 58.3,-48.82 73.5,-48.82 ; 60.727,-71.12 75.927,-71.12 ; 73.5,-48.82 73.5,-59.944 91.127,-59.944 91.127,-71.12 ; 73.5,-48.82 88.7,-48.82 ; 75.927,-71.12 91.127,-71.12 ; 88.7,-48.82 88.7,-59.944 106.327,-59.944 106.327,-71.12 ; 88.7,-48.82 103.9,-48.82 ; 91.127,-71.12 106.327,-71.12 ; 103.9,-48.82 103.9,-59.944 121.527,-59.944 121.527,-71.12 ; 103.9,-48.82 119.1,-48.82 ; 106.327,-71.12 121.527,-71.12 ; 119.1,-48.82 119.1,-59.944 136.727,-59.944 ; 119.1,-48.82 134.3,-48.82 ; 121.527,-71.12 136.727,-71.12 ; 134.3,-59.944 134.3,-48.82 ; 134.3,-59.944 151.927,-59.944 ; 134.3,-59.944 134.3,-48.82 ; 134.3,-48.82 149.5,-48.82 ; 136.727,-71.12 151.927,-71.12 ; 136.727,-71.12 136.727,-59.944 ; 136.727,-71.12 136.727,-59.944 ; 149.5,-59.944 149.5,-48.82 ; 149.5,-59.944 167.127,-59.944 ; 149.5,-59.944 149.5,-48.82 ; 149.5,-48.82 164.7,-48.82 ; 151.927,-71.12 167.127,-71.12 ; 151.927,-71.12 151.927,-59.944 ; 151.927,-71.12 151.927,-59.944 ; 164.7,-59.944 164.7,-48.82 ; 164.7,-59.944 182.327,-59.944 182.327,-71.12 ; 164.7,-59.944 164.7,-48.82 ; 164.7,-48.82 179.9,-48.82 ; 167.127,-71.12 182.327,-71.12 ; 167.127,-71.12 167.127,-59.944 ; 167.127,-71.12 167.127,-59.944 ; 179.9,-48.82 179.9,-59.944 197.527,-59.944 ; 179.9,-48.82 195.1,-48.82 ; 182.327,-71.12 197.527,-71.12 ; 195.1,-59.944 195.1,-48.82 ; 195.1,-59.944 212.727,-59.944 ; 195.1,-59.944 195.1,-48.82 ; 195.1,-48.82 210.3,-48.82 ; 197.527,-71.12 212.727,-71.12 ; 197.527,-71.12 197.527,-59.944 ; 197.527,-71.12 197.527,-59.944 ; 210.3,-59.944 210.3,-48.82 ; 210.3,-59.944 227.927,-59.944 ; 210.3,-59.944 210.3,-48.82 ; 210.3,-48.82 225.5,-48.82 ; 212.727,-71.12 227.927,-71.12 ; 212.727,-71.12 212.727,-59.944 ; 212.727,-71.12 212.727,-59.944 ; 225.5,-59.944 225.5,-48.82 ; 225.5,-59.944 243.127,-59.944 243.127,-71.12 ; 225.5,-59.944 225.5,-48.82 ; 225.5,-48.82 240.7,-48.82 ; 227.927,-71.12 243.127,-71.12 ; 227.927,-71.12 227.927,-59.944 ; 227.927,-71.12 227.927,-59.944 ; 240.7,-48.82 240.7,-59.944 258.327,-59.944 ; 240.7,-48.82 255.9,-48.82 ; 243.127,-71.12 258.327,-71.12 ; 255.9,-59.944 255.9,-48.82 ; 255.9,-59.944 273.527,-59.944 ; 255.9,-59.944 255.9,-48.82 ; 255.9,-48.82 271.1,-48.82 ; 258.327,-71.12 273.527,-71.12 ; 258.327,-71.12 258.327,-59.944 ; 258.327,-71.12 258.327,-59.944 ; 271.1,-59.944 271.1,-48.82 ; 271.1,-59.944 288.727,-59.944 ; 271.1,-59.944 271.1,-48.82 ; 271.1,-48.82 286.3,-48.82 ; 273.527,-71.12 288.727,-71.12 ; 273.527,-71.12 273.527,-59.944 ; 273.527,-71.12 273.527,-59.944 ; 286.3,-59.944 286.3,-48.82 ; 286.3,-59.944 303.927,-59.944 303.927,-71.12 ; 286.3,-59.944 286.3,-48.82 ; 286.3,-48.82 301.5,-48.82 ; 288.727,-71.12 303.927,-71.12 ; 288.727,-71.12 288.727,-59.944 ; 288.727,-71.12 288.727,-59.944 ; 301.5,-48.82 301.5,-59.944 319.127,-59.944 ; 301.5,-48.82 316.7,-48.82 ; 303.927,-71.12 319.127,-71.12 ; 316.7,-59.944 316.7,-48.82 ; 316.7,-59.944 334.327,-59.944 ; 316.7,-59.944 316.7,-48.82 ; 316.7,-48.82 331.9,-48.82 ; 319.127,-71.12 334.327,-71.12 ; 319.127,-71.12 319.127,-59.944 ; 319.127,-71.12 319.127,-59.944 ; 331.9,-48.82 331.9,-59.944 331.9,-48.82 ; 334.327,-71.12 334.327,-59.944 ; 334.327,-71.12 334.327,-59.944